# Altium footprint library Sensor - Thermocouple.PcbLib: 3 footprints
Each footprint in its own frame and in the unit in brackets; x right, y up, seen from the top. Pads: shape width x height; smd on the part's side, far side on the other; paste and mask are expansions set on the pad; w line width, h text height; cw(c..) or ccw(c..) is an arc to the next point about the centre after c.
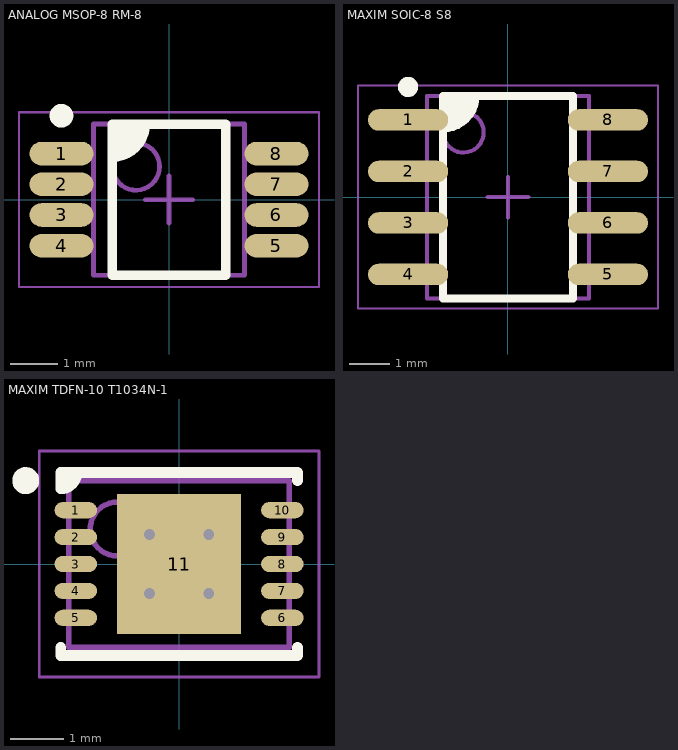
[diagram p0: the footprints below, top view; thin cyan lines are the x and y axes]

## ANALOG MSOP-8 RM-8 [mm]
height 1.1
pads (8):
  oval 1.35x0.5 smd: 1(-2.275,0.975) 2(-2.275,0.325) 3(-2.275,-0.325) 4(-2.275,-0.975) 5(2.275,-0.975) 6(2.275,-0.325) 7(2.275,0.325) 8(2.275,0.975)
Top Overlay:
  circle w0.25: c-2.275,1.775 r0.125
  region: -1.2,1.6 -0.5,1.6 -0.5,1.3 -0.9,0.9 -1.2,0.9
  lines w0.2: -1.2,0.9 ccw(c-1.2,1.6) -0.5,1.6 ; -1.2,-1.6 1.2,-1.6 1.2,1.6 -1.2,1.6 -1.2,-1.6
Mechanical 13:
  circle w0.1: c-0.7,0.7 r0.5
  lines w0.1: -1.6,-1.6 1.6,-1.6 1.6,1.6 -1.6,1.6 -1.6,-1.6
Mechanical 15:
  lines w0.05: -3.175,-1.85 3.175,-1.85 3.175,1.85 -3.175,1.85 -3.175,-1.85
  lines w0.1: -0.5,0 0.5,0 ; 0,-0.5 0,0.5
3D body "MSOP-8.STEP": height 1.1, standoff 0, extent -2.46,-1.5 2.461,1.5

## MAXIM SOIC-8 S8 [mm] "SOIC, 8-Leads, Body 4.90x3.90mm, Pitch 1.27mm, IPC Medium Density"
height 1.75
pads (8):
  oval 1.98x0.53 smd: 1(-2.465,1.905) 2(-2.465,0.635) 3(-2.465,-0.635) 4(-2.465,-1.905) 5(2.465,-1.905) 6(2.465,-0.635) 7(2.465,0.635) 8(2.465,1.905)
Top Overlay:
  circle w0.25: c-2.465,2.72 r0.125
  region: -1.6,2.5 -0.8,2.5 -0.8,2.2 -1.3,1.7 -1.5,1.7
  lines w0.2: -1.6,1.7 ccw(c-1.6,2.5) -0.8,2.5 ; -1.6,-2.5 1.6,-2.5 1.6,2.5 -1.6,2.5 -1.6,-2.5
Mechanical 13:
  circle w0.1: c-1.1,1.6 r0.5
  lines w0.1: -2,-2.5 2,-2.5 2,2.5 -2,2.5 -2,-2.5
Mechanical 15:
  lines w0.05: -3.7,-2.75 3.7,-2.75 3.7,2.75 -3.7,2.75 -3.7,-2.75
  lines w0.1: -0.5,0 0.5,0 ; 0,-0.5 0,0.5
3D body "SO-8.STEP": height 1.5, standoff 0, extent -3.014,-2.45 3.014,2.45

## MAXIM TDFN-10 T1034N-1 [mm] "DFN, 10-Leads, Body 4.00x3.00mm, Pitch 0.50mm, Thermal Pad 2.30x2.60mm, IPC Medium Density"
height 0.8
pads (11):
  oval 0.79x0.3 smd: 1(-1.92,1) 2(-1.92,0.5) 3(-1.92,0) 4(-1.92,-0.5) 5(-1.92,-1) 6(1.92,-1) 7(1.92,-0.5) 8(1.92,0) 9(1.92,0.5) 10(1.92,1)
  rect 2.3x2.6 smd: 11(0,0)
via 0.55,-0.55 diameter 0.5 hole 0.2
via -0.55,-0.55 diameter 0.5 hole 0.2
via 0.55,0.55 diameter 0.5 hole 0.2
via -0.55,0.55 diameter 0.5 hole 0.2
Top Overlay:
  circle w0.25: c-2.85,1.55 r0.125
  region: -1.9,1.7 -2.2,1.7 -2.2,1.4 -2.1,1.4 -2,1.5
  lines w0.2: -2.2,-1.55 -2.2,-1.7 2.2,-1.7 2.2,-1.55 ; -1.9,1.7 cw(c-2.2,1.7) -2.2,1.4 ; 2.2,1.55 2.2,1.7 -2.2,1.7 -2.2,1.4 ; -2.2,1.4 -2.2,1.4
Mechanical 13:
  circle w0.1: c-1.15,0.65 r0.5
  lines w0.1: -2.05,-1.55 2.05,-1.55 2.05,1.55 -2.05,1.55 -2.05,-1.55
Mechanical 15:
  lines w0.05: -2.6,-2.1 2.6,-2.1 2.6,2.1 -2.6,2.1 -2.6,-2.1
  lines w0.1: -0.5,0 0.5,0 ; 0,-0.5 0,0.5
3D body: height 0.8, standoff 0.01, extent -2.05,-1.55 2.05,1.55